# Altium schematic symbol library Connector SIM Card.SchLib: 2 symbols
Pins are listed as number, name and electrical type; pins without a type are passive.

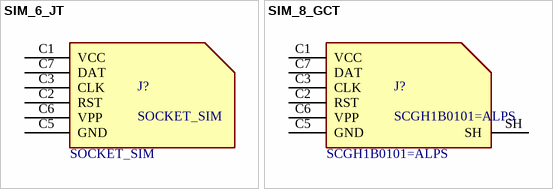
[diagram p0: symbols SIM_6_JT to SIM_8_GCT]

## SIM_6_JT
designator J?, comment SOCKET_SIM
SOCKET, SIM MINI, PUSH-PULL; MANF: JTCONN; MANF_P#: -; PRICE: 750toman@roboeq; VALUE: SOCKET_SIM
footprint SIM_MINI_6JT (SIM MINI, JTCONN)
pins: C1 VCC, C2 RST, C3 CLK, C5 GND, C6 VPP, C7 DAT

## SIM_8_GCT
designator J?, comment SCGH1B0101=ALPS
SOCKET, SIM MINI, PUSH-PULL, SCGH1B0101=ALPS; VALUE: SCGH1B0101=ALPS
footprint SIM_MINI_MOLEX1 (SIM MINI, MOLEX PUSH PUSH pitch: 1.27mm 26.3x19.3mm SCGH1B0101=ALPS)
pins: C1 VCC, C2 RST, C3 CLK, C5 GND, C6 VPP, C7 DAT, SH